# EAGLE library part TLC555IP_TIMER (library UBCSolar)
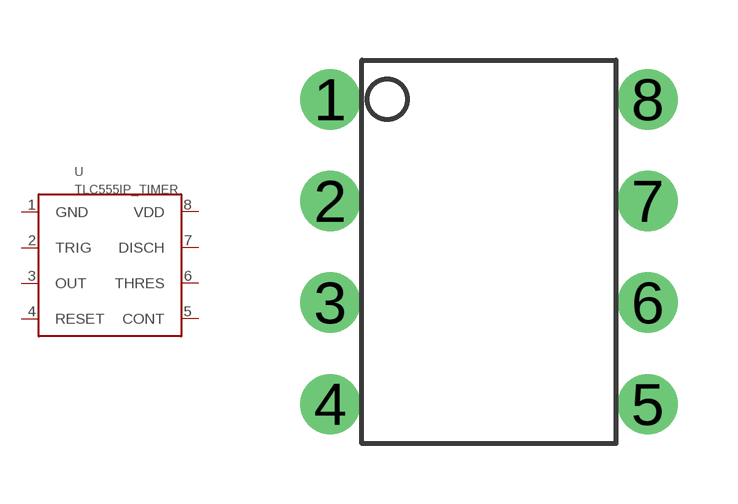
[diagram p8: symbol with the pads of TLC555IP_TIMER; footprint TLC555IP_TIMER]

Designator prefix -

## TLC555IP_TIMER  [TLC555IP_TIMER]
1  GND
2  TRIG
3  OUT
4  RESET
5  CONT
6  THRES
7  DISCH
8  VDD

## Footprint TLC555IP_TIMER (pad centres in mm)
TLC555IP 555 timer: https://www.digikey.ca/product-detail/en/TLC555IP/296-1858-5-ND/277503/?itemSeq=291240532
drill 1: 1 -3.97,3.81; 2 -3.97,1.27; 3 -3.97,-1.27; 4 -3.97,-3.81; 5 3.97,-3.81; 6 3.97,-1.27; 7 3.97,1.27; 8 3.97,3.81